# EAGLE library part ESP-WROOM-02 (library ESP-WROOM-02)
Wi-Fi Module w/ESP8266 802.11b/g/n 20dBm 20x18x3mm
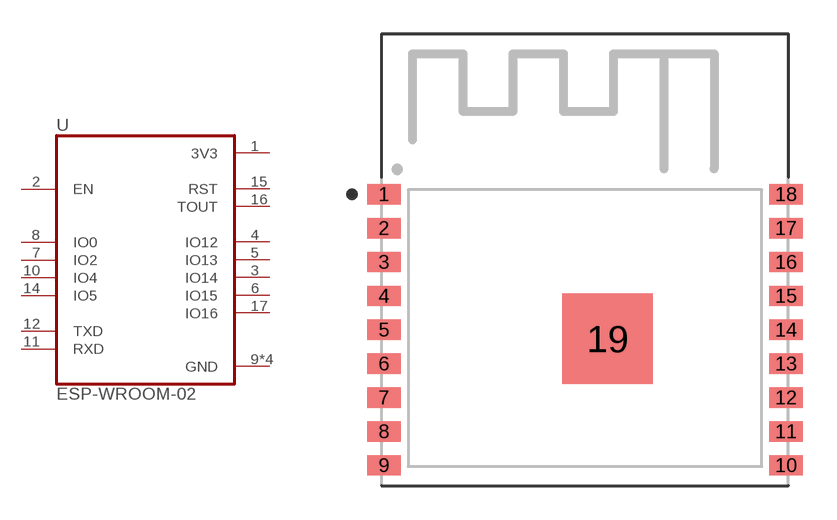
[diagram p0: symbol with the pads of MODULE_ESP-WROOM-02; footprint MODULE_ESP-WROOM-02]

Designator prefix U

## ESP-WROOM-02 (Description: Wi-Fi Module w/ESP8266 802.11b/g/n 20dBm 20x18x3mm; Digi-Key_Part_Number: 1904-1009-1-ND; Digi-Key_Purchase_URL: https://www.digikey.at/product-detail/en/espressif-systems/ESP-WROOM-02/1904-1009-1-ND/8544304?utm_source=snapeda&utm_medium=aggregator&utm_campaign=symbol; MF: Espressif Systems; MP: ESP-WROOM-02; Package: SMD-18 Espressif Systems)  [MODULE_ESP-WROOM-02]
1  3V3  pwr
2  EN  in
3  IO14
4  IO12
5  IO13
6  IO15
7  IO2
8  IO0
9  GND  pwr
10  IO4
11  RXD
12  TXD
13  GND  pwr
14  IO5  oc
15  RST
16  TOUT
17  IO16
18  GND  pwr
19  GND  pwr

## Footprint MODULE_ESP-WROOM-02 (pad centres in mm)
Front Face Top
smd 1.485 x 0.9: 1 -8.893,4.9; 2 -8.893,3.4; 3 -8.893,1.9; 4 -8.893,0.4; 5 -8.893,-1.1; 6 -8.893,-2.6; 7 -8.893,-4.1; 8 -8.893,-5.6; 9 -8.893,-7.1; 10 8.893,-7.1; 11 8.893,-5.6; 12 8.893,-4.1; 13 8.893,-2.6; 14 8.893,-1.1; 15 8.893,0.4; 16 8.893,1.9; 17 8.893,3.4; 18 8.893,4.9
smd 4 x 4: 19 1,-1.5